# Altium schematic symbol library Schlib1.SchLib: 27 symbols
Pins are listed as number, name and electrical type; pins without a type are passive.

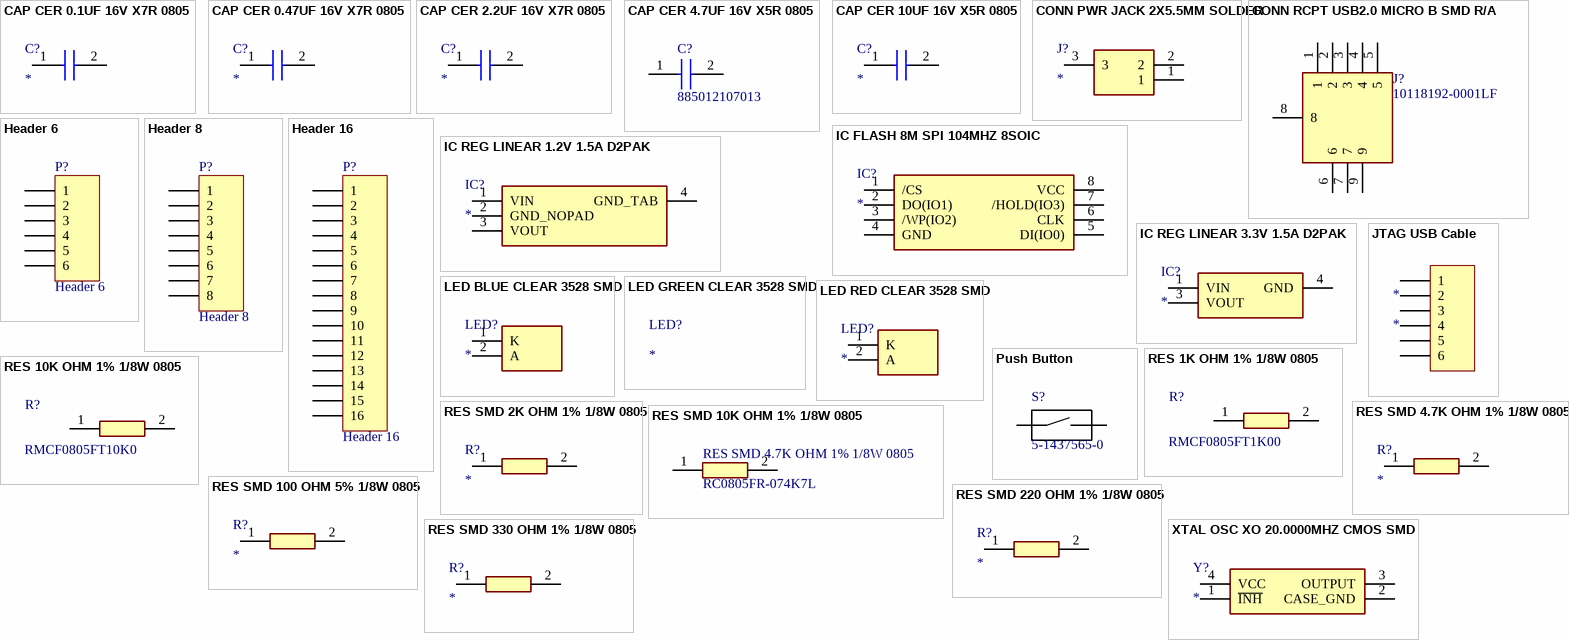
[diagram p0: symbols CAP CER 0.1UF 16V X7R 0805 to XTAL OSC XO 20.0000MHZ CMOS SMD]

## CAP CER 0.1UF 16V X7R 0805
designator C?
Capacitor; Manufacturer_Name: Wurth Elektronik; Manufacturer_Part_Number: 885012207045; Datasheet Link: https://katalog.we-online.com/pbs/datasheet/885012207045.pdf; Height: 0.9mm; Mouser Part Number: 710-885012207045; Mouser Price/Stock: https://www.mouser.com/Search/Refine.aspx?Keyword=710-885012207045; RS Part Number: 1814041P; RS Price/Stock: http://uk.rs-online.com/web/p/products/1814041P
footprint CAPC2012X90N
pins: 1, 2

## CAP CER 0.47UF 16V X7R 0805
designator C?
Capacitor; Manufacturer_Name: Wurth Elektronik; Manufacturer_Part_Number: 885012207049; Datasheet Link: https://katalog.we-online.com/pbs/datasheet/885012207049.pdf; Height: 1.35mm; Mouser Part Number: 710-885012207049; Mouser Price/Stock: https://www.mouser.com/Search/Refine.aspx?Keyword=710-885012207049
footprint CAPC2012X135N
pins: 1, 2

## CAP CER 2.2UF 16V X7R 0805
designator C?
Capacitor; Manufacturer_Name: Wurth Elektronik; Manufacturer_Part_Number: 885012207052; Datasheet Link: https://katalog.we-online.com/pbs/datasheet/885012207052.pdf; Height: 1.35mm; Mouser Part Number: 710-885012207052; Mouser Price/Stock: https://www.mouser.com/Search/Refine.aspx?Keyword=710-885012207052
footprint CAPC2012X135N
pins: 1, 2

## CAP CER 4.7UF 16V X5R 0805
designator C?, comment 885012107013
Capacitor; Manufacturer_Name: Wurth Elektronik; Datasheet Link: https://katalog.we-online.com/pbs/datasheet/885012107013.pdf; Height: 1.35mm; Manufacturer_Part_Number: 885012107013; Mouser Part Number: 710-885012107013; Mouser Price/Stock: https://www.mouser.com/Search/Refine.aspx?Keyword=710-885012107013; RS Part Number: 1814065P; RS Price/Stock: http://uk.rs-online.com/web/p/products/1814065P
footprint CAPC2012X135N
pins: 1, 2

## CAP CER 10UF 16V X5R 0805
designator C?
Capacitor; Manufacturer_Name: Wurth Elektronik; Manufacturer_Part_Number: 885012107013; Datasheet Link: https://katalog.we-online.com/pbs/datasheet/885012107013.pdf; Height: 1.35mm; Mouser Part Number: 710-885012107013; Mouser Price/Stock: https://www.mouser.com/Search/Refine.aspx?Keyword=710-885012107013; RS Part Number: 1814065P; RS Price/Stock: http://uk.rs-online.com/web/p/products/1814065P
footprint CAPC2012X135N
pins: 1, 2

## CONN PWR JACK 2X5.5MM SOLDER
designator J?
Connector; Manufacturer_Name: CUI; Manufacturer_Part_Number: PJ-102AH; Datasheet Link: http://www.cui.com/product/resource/digikeypdf/pj-102ah.pdf; Mouser Part Number: 490-PJ-102AH; Mouser Price/Stock: https://www.mouser.com/Search/Refine.aspx?Keyword=490-PJ-102AH
footprint PJ-102AH
pins: 1, 2, 3

## CONN RCPT USB2.0 MICRO B SMD R/A
designator J?, comment 10118192-0001LF
Connector; Manufacturer_Name: Amphenol; Allied_Number: 70236826; Datasheet Link: https://www.mouser.tw/datasheet/2/18/10118192-1361887.pdf; Height: 2.8mm; Manufacturer_Part_Number: 10118192-0001LF; Mouser Part Number: 649-10118192-0001LF; Mouser Price/Stock: https://www.mouser.com/Search/Refine.aspx?Keyword=649-10118192-0001LF; RS Part Number: 1822939; RS Price/Stock: http://uk.rs-online.com/web/p/products/1822939; Allied Price/Stock: https://www.alliedelec.com/amphenolfci-10118192-0001lf/70236826/
footprint 101181920001LF
pins: 1, 2, 3, 4, 5, 6, 7, 8, 9

## Header 6
designator P?
Header, 6-Pin; LatestRevisionDate: 17-Jul-2002; LatestRevisionNote: Re-released for DXP Platform.; Publisher: Altium Limited
footprint HDR1X6 (Connector; Header; 6 Position)
signal-integrity model Connector
pins: 1, 2, 3, 4, 5, 6

## Header 8
designator P?
Header, 8-Pin; LatestRevisionDate: 17-Jul-2002; LatestRevisionNote: Re-released for DXP Platform.; Publisher: Altium Limited
footprint HDR1X8 (Connector; Header; 8 Position)
signal-integrity model Connector
pins: 1, 2, 3, 4, 5, 6, 7, 8

## Header 16
designator P?
Header, 16-Pin; LatestRevisionDate: 17-Jul-2002; LatestRevisionNote: Re-released for DXP Platform.; Publisher: Altium Limited
footprint HDR1X16 (Connector; Header; 16 Position)
signal-integrity model Connector
pins: 1, 2, 3, 4, 5, 6, 7, 8, 9, 10, 11, 12, 13, 14, 15, 16

## IC FLASH 8M SPI 104MHZ 8SOIC
designator IC?
Integrated Circuit; Manufacturer_Name: Winbond; Manufacturer_Part_Number: W25Q80DVSSIG; Datasheet Link: https://www.winbond.com/resource-files/w25q80dv_revf_02112015.pdf; Height: 2.16mm; Mouser Part Number: 454-W25Q80DVSSIG; Mouser Price/Stock: https://www.mouser.com/Search/Refine.aspx?Keyword=454-W25Q80DVSSIG; RS Part Number: 1882614P; RS Price/Stock: http://uk.rs-online.com/web/p/products/1882614P
footprint SOIC127P790X216-8N (Footprint not found)
pins: 1 /CS, 2 DO(IO1), 3 /WP(IO2), 4 GND, 5 DI(IO0), 6 CLK, 7 /HOLD(IO3), 8 VCC

## IC REG LINEAR 1.2V 1.5A D2PAK
designator IC?
Integrated Circuit; Manufacturer_Name: ON Semiconductor; Manufacturer_Part_Number: NCP565D2T12G; Allied_Number: 70340882; Datasheet Link: http://www.onsemi.com/pub/Collateral/NCP565-D.PDF; Height: 4.572mm; Mouser Part Number: 863-NCP565D2T12G; Mouser Price/Stock: https://www.mouser.com/Search/Refine.aspx?Keyword=863-NCP565D2T12G; RS Part Number: 0464164; RS Price/Stock: http://uk.rs-online.com/web/p/products/0464164; Allied Price/Stock: http://www.alliedelec.com/on-semiconductor-ncp565d2t12g/70340882/
footprint TO254P1420X457-4N
pins: 1 VIN (power), 2 GND_NOPAD (power), 3 VOUT (power), 4 GND_TAB (power)

## IC REG LINEAR 3.3V 1.5A D2PAK
designator IC?
Integrated Circuit; Manufacturer_Name: ON Semiconductor; Manufacturer_Part_Number: NCP565D2T33R4G; Datasheet Link: https://www.onsemi.com/pub/Collateral/NCP565-D.PDF; Height: 4mm; Mouser Part Number: 863-NCP565D2T33R4G; Mouser Price/Stock: https://www.mouser.com/Search/Refine.aspx?Keyword=863-NCP565D2T33R4G; RS Part Number: 7852432P; RS Price/Stock: http://uk.rs-online.com/web/p/products/7852432P
footprint NCV8674DS50R4G
pins: 1 VIN, 3 VOUT, 4 GND

## JTAG USB Cable
designator *
DIGILENT         250-003            PROGRAMMING CABLE, JTAG TO USB; Supplier 1: Digi-Key; Manufacturer: Digilent; Manufacturer Part Number: 250-003; Stock 1: 33; Pricing 1: 1=59 (USD); Number of Pins: 6; Package Quantity: 1; REACH SVHC: No SVHC; ComponentLink1URL: http://www.digilentinc.com/Data/Products/JTAG-USB/JTAG-USB%20Cable_rm.pdf?src-supplier=Digi-Key; ComponentLink1Description: http://www.digilentinc.com/Data/Products/JTAG-USB/JTAG-USB%20Cable_rm.pdf?src-supplier=Digi-Key; Category: Programmers; Supplier Part Number 1: 1286-1052-ND
footprint HDR1X6 (Connector; Header; 6 Position)
pins: 1, 2, 3, 4, 5, 6

## LED BLUE CLEAR 3528 SMD
designator LED?
LED; Manufacturer_Name: Wurth Elektronik; Manufacturer_Part_Number: 150141BS73100; Datasheet Link: http://katalog.we-online.de/led/datasheet/150141BS73100.pdf; Height: 2.1mm; Mouser Part Number: 710-150141BS73100; Mouser Price/Stock: https://www.mouser.com/Search/Refine.aspx?Keyword=710-150141BS73100; RS Part Number: 8154313P; RS Price/Stock: http://uk.rs-online.com/web/p/products/8154313P
footprint LEDM3528X210N
pins: 1 K, 2 A

## LED GREEN CLEAR 3528 SMD
designator LED?
LED; Manufacturer_Name: Wurth Elektronik; Manufacturer_Part_Number: 150141GS73100; Datasheet Link: https://www.mouser.com/datasheet/2/445/150141GS73100-368683.pdf; Height: 2.1mm; Mouser Part Number: 710-150141GS73100; Mouser Price/Stock: https://www.mouser.com/Search/Refine.aspx?Keyword=710-150141GS73100; RS Part Number: 8154316P; RS Price/Stock: http://uk.rs-online.com/web/p/products/8154316P
footprint LEDM3528X210N

## LED RED CLEAR 3528 SMD
designator LED?
LED; Manufacturer_Name: Wurth Elektronik; Manufacturer_Part_Number: 150141RS73100; Datasheet Link: http://katalog.we-online.de/led/datasheet/150141RS73100.pdf; Height: 2.1mm; Mouser Part Number: 710-150141RS73100; Mouser Price/Stock: https://www.mouser.com/Search/Refine.aspx?Keyword=710-150141RS73100; RS Part Number: 8154310P; RS Price/Stock: http://uk.rs-online.com/web/p/products/8154310P
footprint LEDM3528X210N
pins: 1 K, 2 A

## Push Button
designator S?, comment 5-1437565-0
SnapEDA_Link: https://www.snapeda.com/parts/FSM6JSMATR/TE%20Connectivity%20ALCOSWITCH%20Switches/view-part/518064/?ref=snap; Value: *
footprint *SW_5-1437565-0
pins: 1 2, 2, 3 1, 4 1

## RES 1K OHM 1% 1/8W 0805
designator R?, comment RMCF0805FT1K00
Resistor; MF: Stackpole Electronics Inc; Price: None; Package: 2012 Stackpole; SnapEDA_Link: https://www.snapeda.com/parts/RMCF0805FT1K00/Stackpole%20Electronics%20Inc/view-part/3228308/?ref=snap; MP: RMCF0805FT1K00; Availability: Unavailable; Value: *
footprint RESC2012X65N
pins: 1, 2

## RES 10K OHM 1% 1/8W 0805
designator R?, comment RMCF0805FT10K0
Resistor; MF: Stackpole Electronics Inc; Price: None; Package: 2012 Stackpole; SnapEDA_Link: https://www.snapeda.com/parts/RMCF0805FT10K0/Stackpole%20Electronics%20Inc/view-part/3954641/?ref=snap; MP: RMCF0805FT10K0; Availability: Unavailable; Value: *
footprint RESC2012X65N
pins: 1, 2

## RES SMD 2K OHM 1% 1/8W 0805
designator R?
Resistor; Manufacturer_Name: YAGEO (PHYCOMP); Manufacturer_Part_Number: RC0805FR-072KL; Datasheet Link: http://www.yageo.com/documents/recent/PYu-RC_Group_51_RoHS_L_10.pdf; Height: 0.6mm; Mouser Part Number: 603-RC0805FR-072KL; Mouser Price/Stock: https://www.mouser.com/Search/Refine.aspx?Keyword=603-RC0805FR-072KL; RS Part Number: 6182912; RS Price/Stock: http://uk.rs-online.com/web/p/products/6182912
footprint RESC2012X60N
pins: 1, 2

## RES SMD 4.7K OHM 1% 1/8W 0805
designator R?
Resistor; Manufacturer_Name: YAGEO (PHYCOMP); Manufacturer_Part_Number: RC0805FR-074K7L; Datasheet Link: http://www.yageo.com/documents/recent/PYu-RC_Group_51_RoHS_L_10.pdf; Height: 0.6mm; Mouser Part Number: 603-RC0805FR-074K7L; Mouser Price/Stock: https://www.mouser.com/Search/Refine.aspx?Keyword=603-RC0805FR-074K7L; RS Part Number: 6181408; RS Price/Stock: http://uk.rs-online.com/web/p/products/6181408
footprint RESC2012X60N
pins: 1, 2

## RES SMD 10K OHM 1% 1/8W 0805
designator RES SMD 4.7K OHM 1% 1/8W 0805, comment RC0805FR-074K7L
Resistor; Manufacturer_Name: YAGEO (PHYCOMP); Datasheet Link: http://www.yageo.com/documents/recent/PYu-RC_Group_51_RoHS_L_10.pdf; Height: 0.6mm; Manufacturer_Part_Number: RC0805FR-074K7L; Mouser Part Number: 603-RC0805FR-074K7L; Mouser Price/Stock: https://www.mouser.com/Search/Refine.aspx?Keyword=603-RC0805FR-074K7L; RS Part Number: 6181408; RS Price/Stock: http://uk.rs-online.com/web/p/products/6181408
footprint RESC2012X60N
pins: 1, 2

## RES SMD 100 OHM 5% 1/8W 0805
designator R?
Resistor; Manufacturer_Name: TE Connectivity; Manufacturer_Part_Number: CRG0805J100R; Datasheet Link: http://www.te.com/commerce/DocumentDelivery/DDEController?Action=showdoc&DocId=Customer+Drawing%7F1623109%7FBA%7Fpdf%7FEnglish%7FENG_CD_1623109_BA.pdf%7F1623109-1; Height: 0.65mm; Mouser Part Number: 279-CRG0805J100R; Mouser Price/Stock: https://www.mouser.com/Search/Refine.aspx?Keyword=279-CRG0805J100R
footprint RESC2012X65N
pins: 1, 2

## RES SMD 220 OHM 1% 1/8W 0805
designator R?
Resistor; Manufacturer_Name: TE Connectivity; Manufacturer_Part_Number: CRG0805F220R; Allied_Number: 70063197; Datasheet Link: http://www.te.com/commerce/DocumentDelivery/DDEController?Action=showdoc&DocId=Customer+Drawing%7F1623109%7FBA%7Fpdf%7FEnglish%7FENG_CD_1623109_BA.pdf%7F1623109-1; Height: 0.65mm; Mouser Part Number: 279-CRG0805F220R; Mouser Price/Stock: https://www.mouser.com/Search/Refine.aspx?Keyword=279-CRG0805F220R; RS Part Number: 2230332P; RS Price/Stock: http://uk.rs-online.com/web/p/products/2230332P; Allied Price/Stock: https://www.alliedelec.com/te-connectivity-crg0805f220r/70063197/
footprint RESC2012X65N
pins: 1, 2

## RES SMD 330 OHM 1% 1/8W 0805
designator R?
Resistor; Manufacturer_Name: TE Connectivity; Manufacturer_Part_Number: CRG0805F330R; Allied_Number: 70063207; Datasheet Link: http://www.te.com/commerce/DocumentDelivery/DDEController?Action=showdoc&DocId=Customer+Drawing%7F1623109%7FBA%7Fpdf%7FEnglish%7FENG_CD_1623109_BA.pdf%7F1623109-1; Height: 0.65mm; Mouser Part Number: 279-CRG0805F330R; Mouser Price/Stock: https://www.mouser.com/Search/Refine.aspx?Keyword=279-CRG0805F330R; RS Part Number: 2230354P; RS Price/Stock: http://uk.rs-online.com/web/p/products/2230354P; Allied Price/Stock: https://www.alliedelec.com/te-connectivity-crg0805f330r/70063207/
footprint RESC2012X65N
pins: 1, 2

## XTAL OSC XO 20.0000MHZ CMOS SMD
designator Y?
Crystal or Oscillator; Manufacturer_Name: KYOCERA; Manufacturer_Part_Number: KC5032A20.0000CMGE00; Datasheet Link: http://global.kyocera.com/prdct/electro/product/pdf/kc5032a_cm_e.pdf; Mouser Part Number: 581-KC5032A20.CMGE
footprint KC5032A12.0000CM0E00
pins: 1 ~{INH}, 2 CASE_GND, 3 OUTPUT, 4 VCC